# Altium schematic symbol library TCM1-63AX&plus_.SchLib: 2 symbols
Pins are listed as number, name and electrical type; pins without a type are passive.

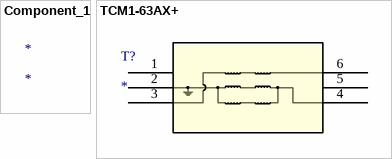
[diagram p0: symbols Component_1 to TCM1-63AX+]

## Component_1
designator *

## TCM1-63AX+
designator T?
No Description Available; Mfr_Name: Mini Circuits; RefDes: RefDes; Type: Type
footprint DB1627_MNC
pins: 1, 2, 3, 4, 5, 6